# Altium schematic symbol library ENC28J60.SchLib: 1 symbol
Pins are listed as number, name and electrical type; pins without a type are passive.

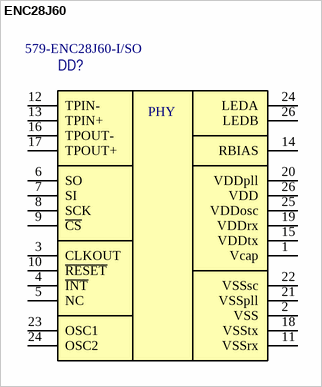
[diagram p0: symbol ENC28J60]

## ENC28J60
designator DD?  Supplier Part Number 1: 579-ENC28J60-I/SO  (hidden comment: *)
Supplier 1: Mouser
pins: 1 Vcap, 2 VSS, 3 CLKOUT, 4 ~{INT}, 5 NC, 6 SO, 7 SI, 8 SCK, 9 ~{CS}, 10 ~{RESET}, 11 VSSrx, 12 TPIN-, 13 TPIN+, 14 RBIAS, 15 VDDtx, 16 TPOUT-, 17 TPOUT+, 18 VSStx, 19 VDDrx, 20 VDDpll, 21 VSSpll, 22 VSSsc, 23 OSC1, 24 OSC2, 24 LEDA, 25 VDDosc, 26 LEDB, 26 VDD
text: PHY